# Altium footprint library panasonic.PcbLib: 1 footprints
Each footprint in its own frame and in the unit in brackets; x right, y up, seen from the top. Pads: shape width x height; smd on the part's side, far side on the other; paste and mask are expansions set on the pad; w line width, h text height; cw(c..) or ccw(c..) is an arc to the next point about the centre after c.
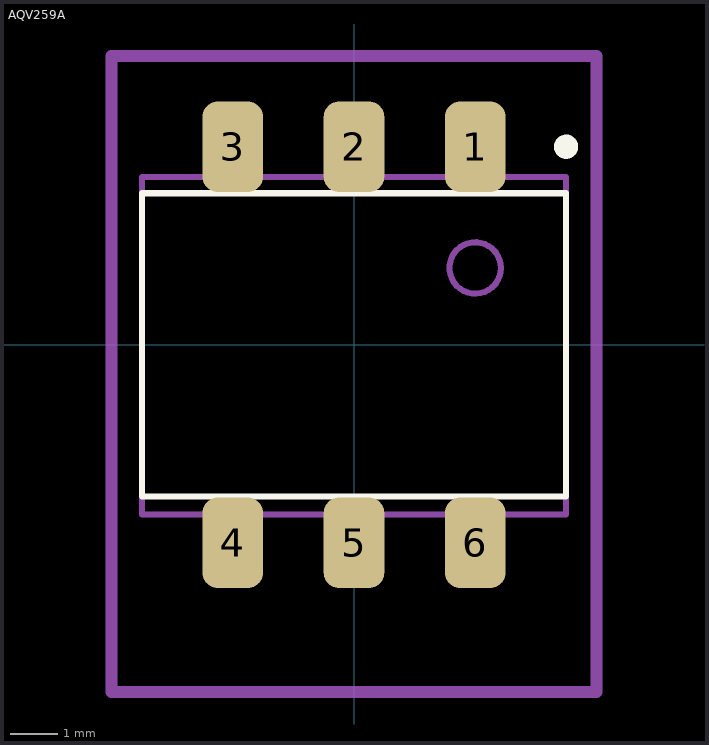
[diagram p0: the footprint, top view; thin cyan lines are the x and y axes]

## AQV259A [mm]
height 3.683
pads (6):
  rrect50% 1.27x1.9 smd: 1(2.54,4.15) 2(0,4.15) 3(-2.54,4.15) 4(-2.54,-4.15) 5(0,-4.15) 6(2.54,-4.15)
Top Overlay:
  circle w0.254: c4.445,4.15 r0.127
  lines w0.127: -4.445,-3.175 -4.445,3.175 4.445,3.175 4.445,-3.175 -4.445,-3.175
Mechanical 13:
  circle w0.127: c2.54,1.61 r0.539
  lines w0.127: -4.445,-3.556 -4.445,3.515 4.445,3.515 4.445,-3.556 -4.445,-3.556
Mechanical 15:
  lines w0.254: -5.08,-7.28 5.08,-7.28 5.08,6.055 -5.08,6.055 -5.08,-7.28
3D body: height 3.82, standoff 0, extent -3.56,-4.981 3.56,4.899